# EAGLE library part FH28-60S-0.5SH_05_ (library SamacSys_Parts)
Hirose FH28 0.5mm Pitch 60 Way Right Angle SMT Female FPC Connector, ZIF Bottom Contact Source: Datasheet <https://www.hirose.com/product/document?clcode=CL0586-1811-6-05&productname=FH28-60S-0.5SH(05)&series=FH28&documenttype=2DDrawing&lang=en&documentid=0001002303>
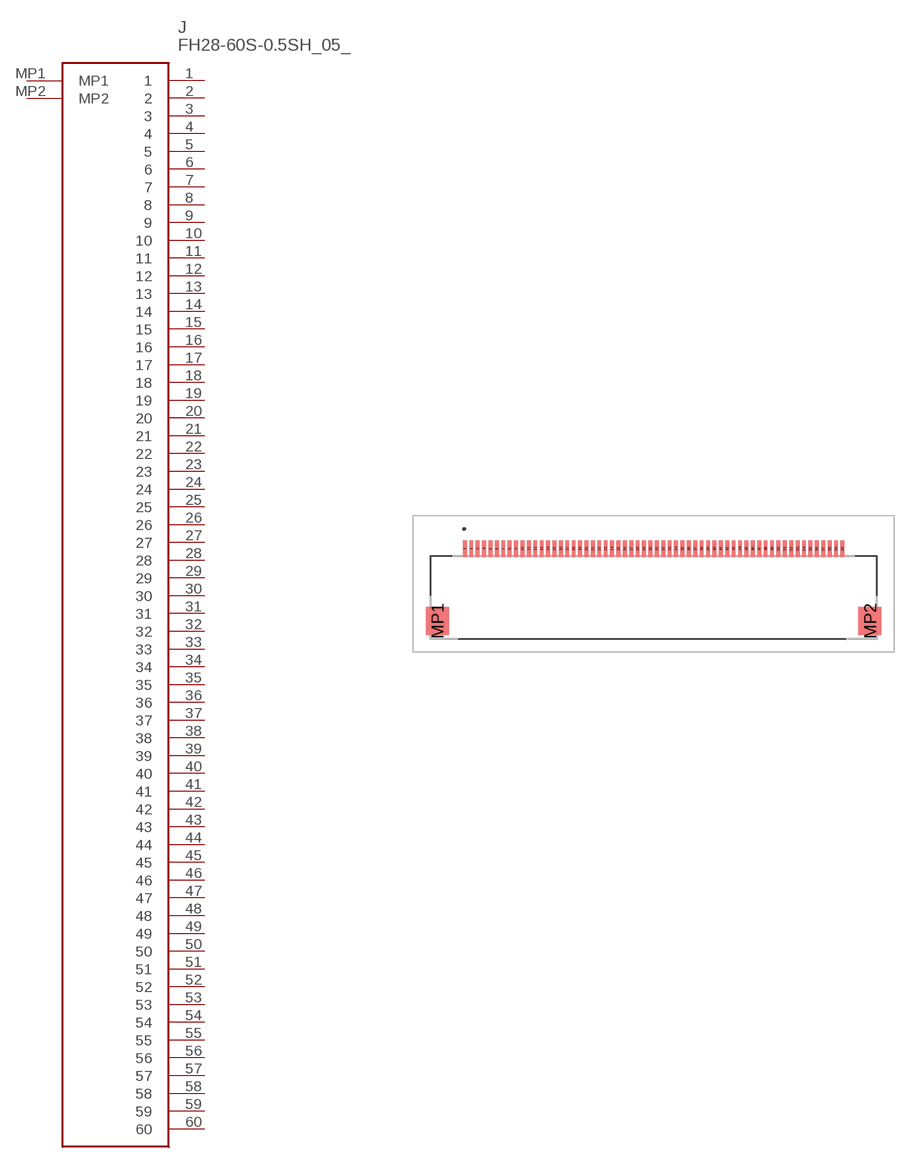
[diagram p136: symbol with the pads of FH2860S05SH05; footprint FH2860S05SH05]

Designator prefix J

## FH28-60S-0.5SH_05_ (DESCRIPTION: Hirose FH28 0.5mm Pitch 60 Way Right Angle SMT Female FPC Connector, ZIF Bottom Contact; HEIGHT: 5.6mm; MANUFACTURER_NAME: Hirose; MANUFACTURER_PART_NUMBER: FH28-60S-0.5SH(05); MOUSER_PART_NUMBER: 798-FH28-60S-0.5SH05; MOUSER_PRICE-STOCK: https://www.mouser.co.uk/ProductDetail/Hirose-Connector/FH28-60S-05SH05?qs=nSryOFbzj8IIARMi1Gj6Yw%3D%3D)  [FH2860S05SH05]
1  1
2  2
3  3
4  4
5  5
6  6
7  7
8  8
9  9
10  10
11  11
12  12
13  13
14  14
15  15
16  16
17  17
18  18
19  19
20  20
21  21
22  22
23  23
24  24
25  25
26  26
27  27
28  28
29  29
30  30
31  31
32  32
33  33
34  34
35  35
36  36
37  37
38  38
39  39
40  40
41  41
42  42
43  43
44  44
45  45
46  46
47  47
48  48
49  49
50  50
51  51
52  52
53  53
54  54
55  55
56  56
57  57
58  58
59  59
60  60
MP1  MP1
MP2  MP2

## Footprint FH2860S05SH05 (pad centres in mm)
FH28-60S-0.5SH(05)-1
smd 0.3 x 1.3: 1 -14.75,3.8; 2 -14.25,3.8; 3 -13.75,3.8; 4 -13.25,3.8; 5 -12.75,3.8; 6 -12.25,3.8; 7 -11.75,3.8; 8 -11.25,3.8; 9 -10.75,3.8; 10 -10.25,3.8; 11 -9.75,3.8; 12 -9.25,3.8; 13 -8.75,3.8; 14 -8.25,3.8; 15 -7.75,3.8; 16 -7.25,3.8; 17 -6.75,3.8; 18 -6.25,3.8; 19 -5.75,3.8; 20 -5.25,3.8; 21 -4.75,3.8; 22 -4.25,3.8; 23 -3.75,3.8; 24 -3.25,3.8; 25 -2.75,3.8; 26 -2.25,3.8; 27 -1.75,3.8; 28 -1.25,3.8; 29 -0.75,3.8; 30 -0.25,3.8; 31 0.25,3.8; 32 0.75,3.8; 33 1.25,3.8; 34 1.75,3.8; 35 2.25,3.8; 36 2.75,3.8; 37 3.25,3.8; 38 3.75,3.8; 39 4.25,3.8; 40 4.75,3.8; 41 5.25,3.8; 42 5.75,3.8; 43 6.25,3.8; 44 6.75,3.8; 45 7.25,3.8; 46 7.75,3.8; 47 8.25,3.8; 48 8.75,3.8; 49 9.25,3.8; 50 9.75,3.8; 51 10.25,3.8; 52 10.75,3.8; 53 11.25,3.8; 54 11.75,3.8; 55 12.25,3.8; 56 12.75,3.8; 57 13.25,3.8; 58 13.75,3.8; 59 14.25,3.8; 60 14.75,3.8
smd 1.8 x 2.2: MP1 -16.9,-1.85; MP2 16.9,-1.85